# EAGLE library part CH340K (library CH340K)
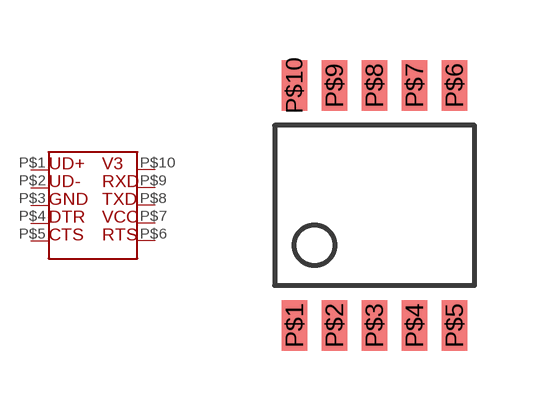
[diagram p0: symbol with the pads of CH340K; footprint CH340K]

Designator prefix -

## CH340K  [CH340K]
P$1  P$1
P$2  P$2
P$3  P$3
P$4  P$4
P$5  P$5
P$6  P$6
P$7  P$7
P$8  P$8
P$9  P$9
P$10  P$10

## Footprint CH340K (pad centres in mm)
smd 0.635 x 1.27: P$1 0.5,-1; P$2 1.5,-1; P$3 2.5,-1; P$4 3.5,-1; P$5 4.5,-1; P$6 4.5,5; P$7 3.5,5; P$8 2.5,5; P$9 1.5,5; P$10 0.5,5